# EAGLE library part M20 (library NSL_Tracker)
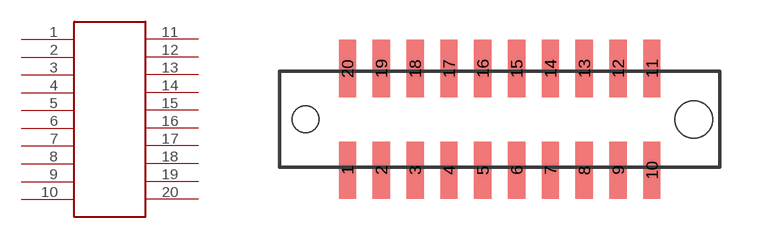
[diagram p6: symbol with the pads of M50-4301045; footprint M50-4301045]

Designator prefix -

## M20  [M50-4301045]
1  E
2  F
3  G
4  H
5  I
6  J
7  K
8  L
9  M
10  N
11  O
12  P
13  Q
14  R
15  S
16  T
17  U
18  V
19  W
20  X

## Footprint M50-4301045 (pad centres in mm)
smd 0.65 x 2.15: 1 -5.715,-1.905; 2 -4.445,-1.905; 3 -3.175,-1.905; 4 -1.905,-1.905; 5 -0.635,-1.905; 6 0.635,-1.905; 7 1.905,-1.905; 8 3.175,-1.905; 9 4.445,-1.905; 10 5.715,-1.905; 11 5.715,1.905; 12 4.445,1.905; 13 3.175,1.905; 14 1.905,1.905; 15 0.635,1.905; 16 -0.635,1.905; 17 -1.905,1.905; 18 -3.175,1.905; 19 -4.445,1.905; 20 -5.715,1.905
hole 1 at -7.29,0
hole 1.4 at 7.29,0